# EAGLE library part GP-GC021 (library candrian)
Bluetooth Device
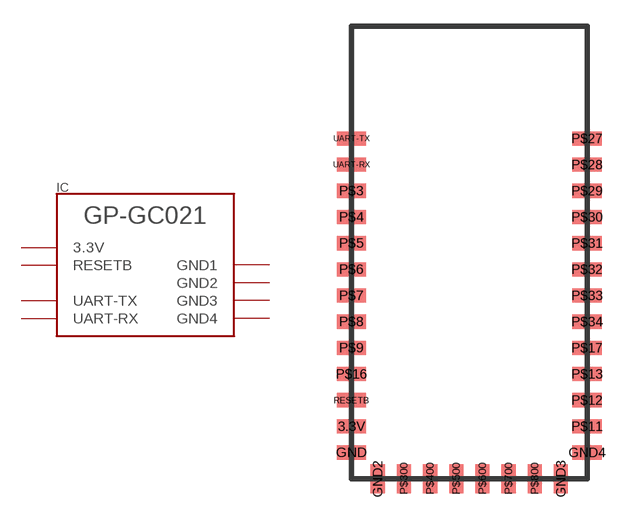
[diagram p1: symbol with the pads of GP-GC021; footprint GP-GC021]

Designator prefix IC

## GP-GC021  [GP-GC021]
3.3V  3.3V
GND  GND1
GND2  GND2
GND3  GND3
GND4  GND4
RESETB  RESETB
UART-RX  UART-RX
UART-TX  UART-TX

## Footprint GP-GC021 (pad centres in mm)
smd 1.676 x 0.813: 3.3V -6.35,-10.61; GND -6.35,-12.11; GND4 7.15,-12.11; P$3 -6.35,2.89; P$4 -6.35,1.39; P$5 -6.35,-0.11; P$6 -6.35,-1.61; P$7 -6.35,-3.11; P$8 -6.35,-4.61; P$9 -6.35,-6.11; P$11 7.15,-10.61; P$12 7.15,-9.11; P$13 7.15,-7.61; P$16 -6.35,-7.61; P$17 7.15,-6.11; P$27 7.15,5.89; P$28 7.15,4.39; P$29 7.15,2.89; P$30 7.15,1.39; P$31 7.15,-0.11; P$32 7.15,-1.61; P$33 7.15,-3.11; P$34 7.15,-4.61; RESETB -6.35,-9.11; UART-RX -6.35,4.39; UART-TX -6.35,5.89
smd 0.813 x 1.676: GND2 -4.85,-13.61; GND3 5.65,-13.61; P$300 -3.35,-13.61; P$400 -1.85,-13.61; P$500 -0.35,-13.61; P$600 1.15,-13.61; P$700 2.65,-13.61; P$800 4.15,-13.61